# EAGLE library part INA219_BREAKOUT (library Underwater-Camera-v2.0)
GY-INA219 Gyro/Accelerometer Breakout board
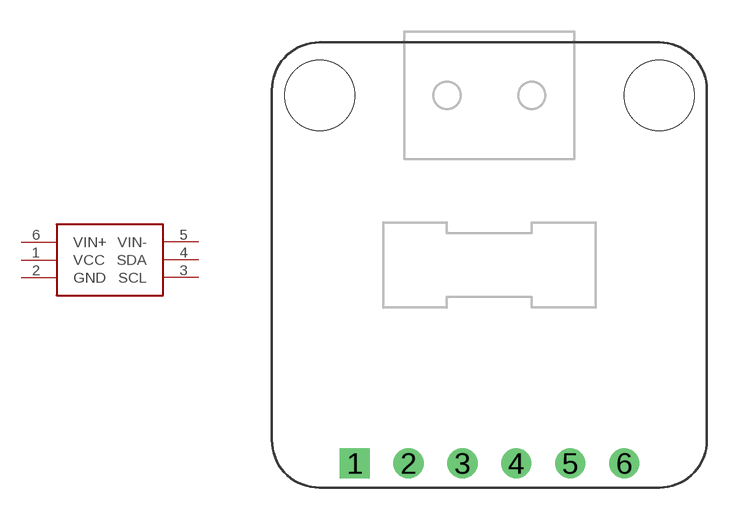
[diagram p20: symbol with the pads of INA219_BREAKOUT; footprint INA219_BREAKOUT]

Designator prefix IC

## INA219_BREAKOUT  [INA219_BREAKOUT]
1  VCC
2  GND
3  SCL
4  SDA
5  VIN-
6  VIN+

## Footprint INA219_BREAKOUT (pad centres in mm)
GY-INA219 Current Sense Breakout board
drill 0.8 pad 1.422 square: 1 -6.35,-9.35
drill 0.8 pad 1.422: 2 -3.81,-9.35; 3 -1.27,-9.35; 4 1.27,-9.35; 5 3.81,-9.35; 6 6.35,-9.35
hole 3.3 at -8,8
hole 3.3 at 8,8